# EAGLE library part POLOLU (library Pololu4988)
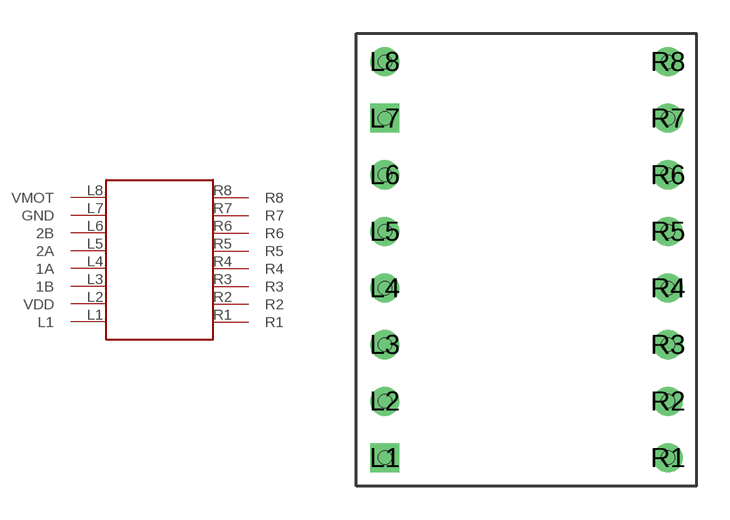
[diagram p0: symbol with the pads of POLOLU; footprint POLOLU]

Designator prefix POL

## POLOLU  [POLOLU]
L1  L1
L2  VDD
L3  1B
L4  1A
L5  2A
L6  2B
L7  GND
L8  VMOT
R1  R1
R2  R2
R3  R3
R4  R4
R5  R5
R6  R6
R7  R7
R8  R8

## Footprint POLOLU (pad centres in mm)
drill 0.8 square: L1 1.27,1.27; L7 1.27,16.51
drill 0.8 round: L2 1.27,3.81; L3 1.27,6.35; L4 1.27,8.89; L5 1.27,11.43; L6 1.27,13.97; L8 1.27,19.05; R1 13.97,1.27; R2 13.97,3.81; R3 13.97,6.35; R4 13.97,8.89; R5 13.97,11.43; R6 13.97,13.97; R7 13.97,16.51; R8 13.97,19.05
hole 0.6 at 1.27,19.05
hole 0.6 at 13.97,19.05
hole 0.6 at 13.97,16.51
hole 0.6 at 1.27,16.51
hole 0.6 at 1.27,13.97
hole 0.6 at 1.27,11.43
hole 0.6 at 13.97,11.43
hole 0.6 at 13.97,13.97
hole 0.6 at 13.97,8.89
hole 0.6 at 1.27,8.89
hole 0.6 at 1.27,6.35
hole 0.6 at 1.27,3.81
hole 0.6 at 1.27,1.27
hole 0.6 at 13.97,1.27
hole 0.6 at 13.97,3.81
hole 0.6 at 13.97,6.35